# Altium footprint library Capacitor.PcbLib: 1 footprints
Each footprint in its own frame and in the unit in brackets; x right, y up, seen from the top. Pads: shape width x height; smd on the part's side, far side on the other; paste and mask are expansions set on the pad; w line width, h text height; cw(c..) or ccw(c..) is an arc to the next point about the centre after c.
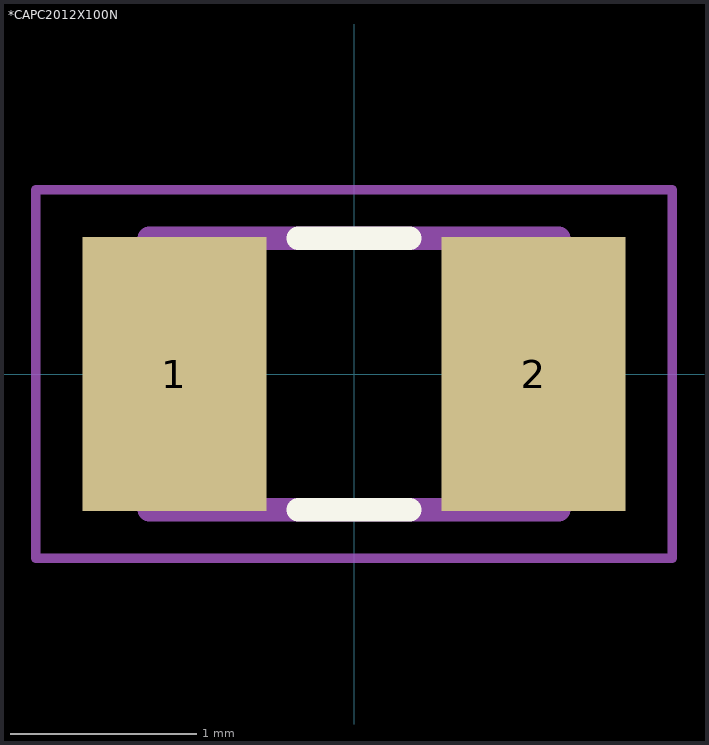
[diagram p0: the footprint, top view; thin cyan lines are the x and y axes]

## *CAPC2012X100N [mm]
pads (2):
  rect 0.99x1.47 smd: 1(-0.965,0) 2(0.965,0)
Top Overlay:
  lines w0.127: -0.3,-0.73 0.3,-0.73 ; -0.3,0.73 0.3,0.73
Mechanical 4:
  lines w0.127: -1.1,-0.73 1.1,-0.73 ; -1.1,-0.73 -1.1,0.73 ; -1.1,-0.73 1.1,-0.73 ; -1.1,-0.73 -1.1,0.73 ; -1.1,0.73 1.1,0.73 ; -1.1,0.73 1.1,0.73 ; 1.1,-0.73 1.1,0.73 ; 1.1,-0.73 1.1,0.73
Mechanical 16:
  lines w0.051: -1.71,-0.99 1.71,-0.99 1.71,0.99 -1.71,0.99 -1.71,-0.99
3D body "CAPC-0805-T0.95-BN.stp": height 0.95, standoff 0, extent -1.05,-0.675 1.05,0.675